# EAGLE library part GANZ-CONNECTOR-OUT (library ganzlib)
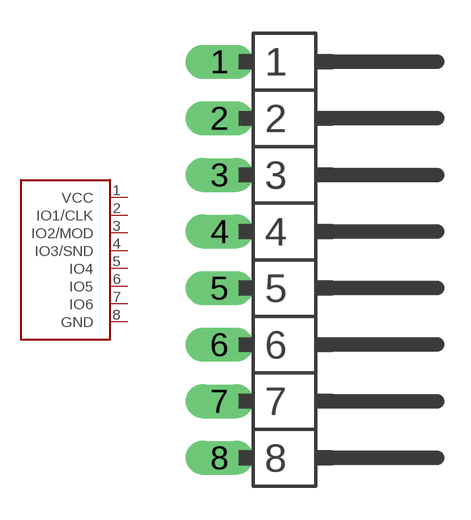
[diagram p3: symbol with the pads of MA08-1W; footprint MA08-1W]

Designator prefix -

## GANZ-CONNECTOR-OUT  [MA08-1W]
1  VCC
2  IO1/CLK
3  IO2/MOD
4  IO3/SND
5  IO4
6  IO5
7  IO6
8  GND

## Footprint MA08-1W (pad centres in mm)
PIN HEADER
drill 1.016 long: 1 0,8.89; 2 0,6.35; 3 0,3.81; 4 0,1.27; 5 0,-1.27; 6 0,-3.81; 7 0,-6.35; 8 0,-8.89